# Altium schematic symbol library sch_Active.SchLib: 30 symbols
Pins are listed as number, name and electrical type; pins without a type are passive.

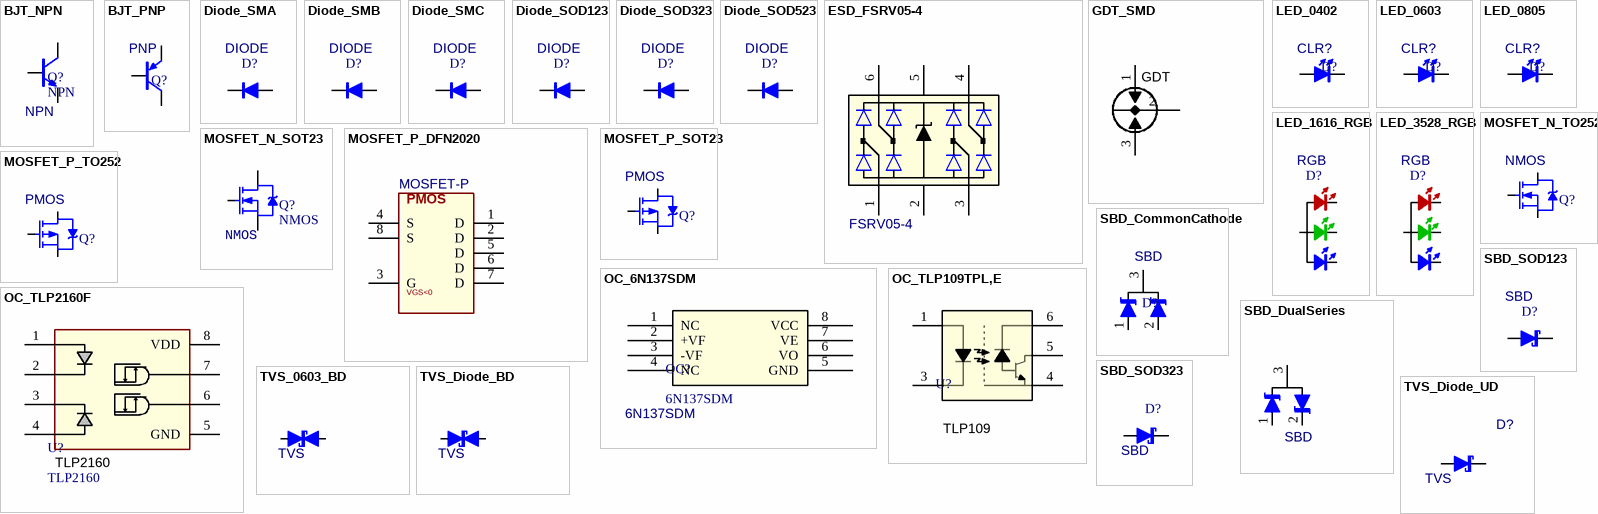
[diagram p0: symbols BJT_NPN to TVS_Diode_UD]

## BJT_NPN
designator Q?, comment NPN
Transistor; Mfr_Name: Mfr?; Package: SOT23-3; PartNumber: NPN
footprint SOT23-3_L2.9-W1.3-P1.9
pins: 1 B, 2 E, 3 C

## BJT_PNP
designator Q?, comment PNP
Transistor; Mfr_Name: Mfr?; Package: SOT23-3; PartNumber: PNP
footprint SOT23-3_L2.9-W1.3-P1.9
pins: 1 B, 2 E, 3 C

## Diode_SMA
designator D?, comment DIODE
Mfr_Name: Mfr?; Package: SMA; PartNumber: DIODE
footprint DO-214AC_L5.4-W2.7-RD (SMA)
pins: 1, 2

## Diode_SMB
designator D?, comment DIODE
Mfr_Name: Mfr?; Package: SMB; PartNumber: DIODE
footprint DO-214AA_L5.3-W3.6-RD (SMB)
pins: 1, 2

## Diode_SMC
designator D?, comment DIODE
Mfr_Name: Mfr?; Package: SMC; PartNumber: DIODE
footprint DO-214AB_L7.9-W6.0-RD (SMC)
pins: 1, 2

## Diode_SOD123
designator D?, comment DIODE
Mfr_Name: Mfr?; Package: SOD123; PartNumber: DIODE
footprint SOD-123_L2.7-W1.6-RD
pins: 1, 2

## Diode_SOD323
designator D?, comment DIODE
Mfr_Name: Mfr?; Package: SOD323; PartNumber: DIODE
footprint SOD-323_L1.7-W1.3-RD
pins: 1, 2

## Diode_SOD523
designator D?, comment DIODE
Mfr_Name: Mfr?; Package: SOD523; PartNumber: DIODE
footprint SOD-523_L1.2-W0.8-RD
pins: 1, 2

## ESD_FSRV05-4
designator U?, comment FSRV05-4
静电和浪涌保护; Mfr_Name: FUXINSEMI; Package: SOT-23-6; PartNumber: FSRV05-4
footprint SOT23-6_L2.9-W1.6-P0.95
pins: 1, 2, 3, 4, 5, 6

## GDT_SMD
designator GDT?, comment GDT
Gas discharge tube; Mfr_Name: Mfr?; Package: PkgRef; PartNumber: GDT
footprint DIO-DT-SMD_L7.2-W5.0
pins: 1, 2, 3

## LED_0402
designator D?, comment CLR?
LED; Mfr_Name: Mfr?; Package: 0402; PartNumber: CLR?
footprint LED0402-RD-YELLOW
footprint LED0402-RD-RED
footprint LED0402-RD-ORANGE
footprint LED0402-RD-GREEN
footprint LED0402-RD-BLUE
pins: 1, 2

## LED_0603
designator D?, comment CLR?
LED; Mfr_Name: Mfr?; Package: 0603; PartNumber: CLR?
footprint LED0603-RD-YELLOW
footprint LED0603-RD-BLUE
footprint LED0603-RD-RED
footprint LED0603-RD-ORANGE
footprint LED0603-RD-GREEN
pins: 1, 2

## LED_0805
designator D?, comment CLR?
LED; Mfr_Name: Mfr?; Package: 0805; PartNumber: CLR?
footprint LED0805-RD-YELLOW
footprint LED0805-RD-RED
footprint LED0805-RD-ORANGE
footprint LED0805-RD-GREEN
footprint LED0805-RD-BLUE
pins: 1, 2

## LED_1616_RGB
designator D?, comment RGB
LED; Mfr_Name: Mfr?; Package: 1616; PartNumber: RGB
pins: 1 R, 2 G, 3 B, 4 A

## LED_3528_RGB
designator D?, comment RGB
LED; Mfr_Name: Mfr?; Package: 3528; PartNumber: RGB
pins: 1 R, 2 G, 3 B, 4 A

## MOSFET_N_SOT23
designator Q?, comment NMOS
MOSFET; Mfr_Name: Mfr?; Package: SOT23-3; PartNumber: NMOS
footprint SOT23-3_L2.9-W1.3-P1.9
pins: 1 G, 2 S, 3 D

## MOSFET_N_TO252
designator Q?, comment NMOS
MOSFET; Mfr_Name: Mfr?; Package: TO252; PartNumber: NMOS
footprint TO-252-2_L6.1-W6.5-P4.57 (TO252AA,DPAK,SC-63)
pins: 1 G, 3 S, 4 D

## MOSFET_P_DFN2020
designator Q?, comment MOSFET-P
MOSFET; MFR: *; Package: UDFN2020-6; PartNumber: MOSFET-P
footprint U-DFN2020-6(TYPE-F)
pins: 1 D, 2 D, 3 G, 4 S, 5 D, 6 D, 7 D, 8 S
text: PMOS; VGS<0

## MOSFET_P_SOT23
designator Q?, comment PMOS
MOSFET; Mfr_Name: Mfr?; Package: SOT23; PartNumber: PMOS
footprint SOT23-3_L2.9-W1.3-P1.9
pins: 1 G, 2 S, 3 D

## MOSFET_P_TO252
designator Q?, comment PMOS
MOSFET; Mfr_Name: Mfr?; Package: TO252; PartNumber: PMOS
footprint TO-252-2_L6.1-W6.5-P4.57 (TO252AA,DPAK,SC-63)
pins: 1 G, 3 S, 4 D

## OC_6N137SDM
designator OC?, comment 6N137SDM
Logic OC; Mfr_Name: onsemi; Package: SOP-8-2.54mm; PartNumber: 6N137SDM
footprint SOP-8_L9.7-W6.5-P2.54 (6.5*9.66*3.5mm（长宽高）)
pins: 1 NC, 2 +VF (power), 3 -VF (power), 4 NC, 5 GND (power), 6 VO (power), 7 VE (power), 8 VCC (power)

## OC_TLP109TPL,E
designator U?, comment TLP109
Logic OC; Mfr_Name: Toshiba Electronic Devices & Storage Corp.; Package: SO-5-4.6mm; PartNumber: TLP109
footprint SOP-5_L4.6-W3.7-P1.27-OPTO
pins: 1, 3, 4, 5, 6

## OC_TLP2160F
designator U?, comment TLP2160
Logic OC; Mfr_Name: Toshiba Electronic Devices & Storage Corp.; Package: SOP-8; PartNumber: TLP2160
footprint SOP-8_L5.0-W3.8-P1.27-OPTO
pins: 1, 2, 3, 4, 5 GND, 6, 7, 8 VDD

## SBD_CommonCathode
designator D?, comment SBD
Schottky Diode; Mfr_Name: Mfr?; Package: SOT23-3; PartNumber: SBD
footprint SOT23-3_L2.9-W1.3-P1.9
pins: 1 A, 2 A, 3 K

## SBD_DualSeries
designator D?, comment SBD
SBD_DualSeries; Mfr_Name: Mfr?; Package: Pkg?; PartNumber: SBD
footprint SOT23-3_L2.9-W1.3-P1.9
pins: 1 A, 2 K, 3 K

## SBD_SOD123
designator D?, comment SBD
Schottky Diode; Mfr_Name: Mfr?; Package: SOD123; PartNumber: SBD
footprint SOD-123_L2.7-W1.6-RD
pins: 1, 2

## SBD_SOD323
designator D?, comment SBD
Schottky Diode; Mfr_Name: Mfr?; Package: SOD323; PartNumber: SBD
footprint SOD-323_L1.7-W1.3-RD
pins: 1, 2

## TVS_0603_BD
designator D?, comment TVS
TVS Diode Bidirectional; Mfr_Name: Mfr?; Package: 0603; PartNumber: TVS
footprint L0603
pins: 1 A, 2 K

## TVS_Diode_BD
designator D?, comment TVS
TVS Diode Bidirectional; Mfr_Name: Mfr?; Package: PkgRef; PartNumber: TVS
footprint DO-214AA_L5.3-W3.6-RD (SMB)
pins: 1 A, 2 K

## TVS_Diode_UD
designator D?, comment TVS
TVS Diode Uni-directional; Mfr_Name: Mfr?; Package: PkgRef; PartNumber: TVS
footprint DO-214AA_L5.3-W3.6-RD (SMB)
pins: 1, 2